# Altium schematic symbol library TLV313IDCKR.SchLib: 1 symbol
Pins are listed as number, name and electrical type; pins without a type are passive.

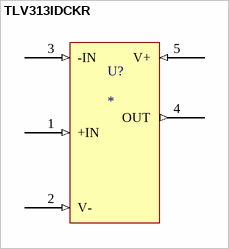
[diagram p0: symbol TLV313IDCKR]

## TLV313IDCKR
designator U?
https://www.mouser.com/ProductDetail/Texas-Instruments/TLV313IDCKR?qs=8%252Br4Hz5Xir8P1rgivePgtw%3D%3D; ComponentLink1Description: digikey; ComponentLink1URL: https://www.mouser.com/ProductDetail/Texas-Instruments/TLV313IDCKR?qs=8%252Br4Hz5Xir8P1rgivePgtw%3D%3D; ComponentLink2Description: New link; ComponentLink2URL: *; ComponentLink3Description: New link 1; ComponentLink3URL: *
footprint TLV313IDCKR (SOT23, 5-Leads, Body 2.00x2.10mm, Pitch 0.65mm, IPC Medium Density)
pins: 1 +IN (in), 2 V- (in), 3 -IN (in), 4 OUT (out), 5 V+ (in)